# Altium integrated library ADE7913.IntLib: 1 symbol
Pins are listed as number, name and electrical type; pins without a type are passive.

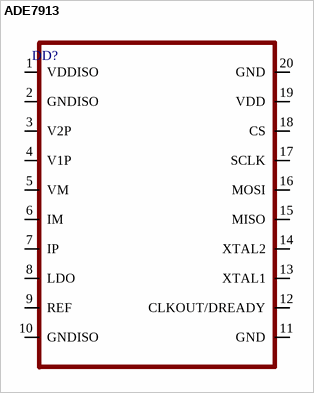
[diagram p0: symbol ADE7913]

## ADE7913
designator DD?
footprint SOIC20
pins: 1 VDDISO, 2 GNDISO, 3 V2P, 4 V1P, 5 VM, 6 IM, 7 IP, 8 LDO, 9 REF, 10 GNDISO, 11  GND, 12 CLKOUT/DREADY, 13 XTAL1, 14 XTAL2, 15 MISO, 16 MOSI, 17  SCLK, 18 CS, 19 VDD, 20  GND